# Altium footprint library SM_SNT-8A.PcbLib: 1 footprints
Each footprint in its own frame and in the unit in brackets; x right, y up, seen from the top. Pads: shape width x height; smd on the part's side, far side on the other; paste and mask are expansions set on the pad; w line width, h text height; cw(c..) or ccw(c..) is an arc to the next point about the centre after c.
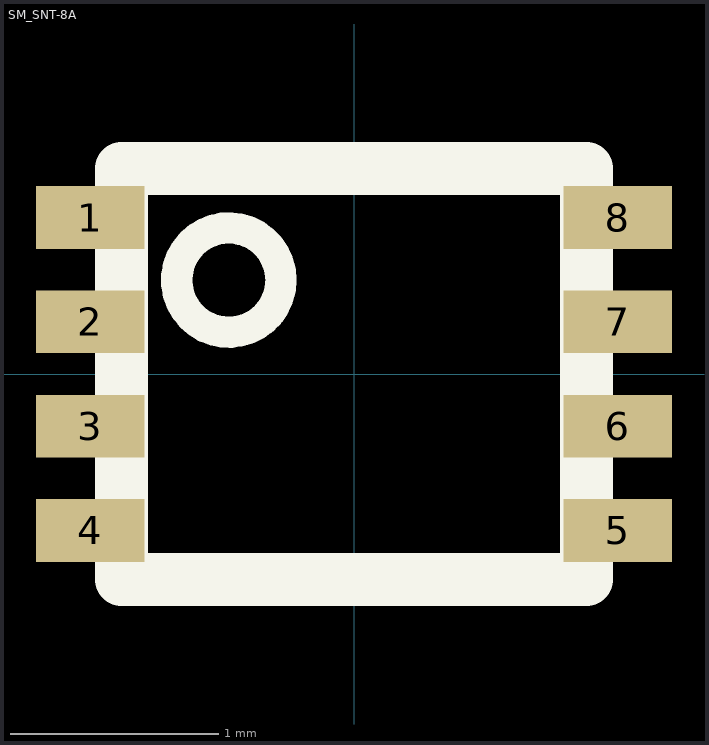
[diagram p0: the footprint, top view; thin cyan lines are the x and y axes]

## SM_SNT-8A [mm]
pads (8):
  rect 0.52x0.3 smd mask+0.025: 1(-1.265,0.75) 2(-1.265,0.25) 3(-1.265,-0.25) 4(-1.265,-0.75) 5(1.265,-0.75) 6(1.265,-0.25) 7(1.265,0.25) 8(1.265,0.75)
Top Overlay:
  circle w0.15: c-0.6,0.45 r0.25
  lines w0.254: -1.115,-0.985 -1.115,0.985 1.115,0.985 1.115,-0.985 -1.115,-0.985